# EAGLE library part PCF8523 (library LinnesLab-Clocks)
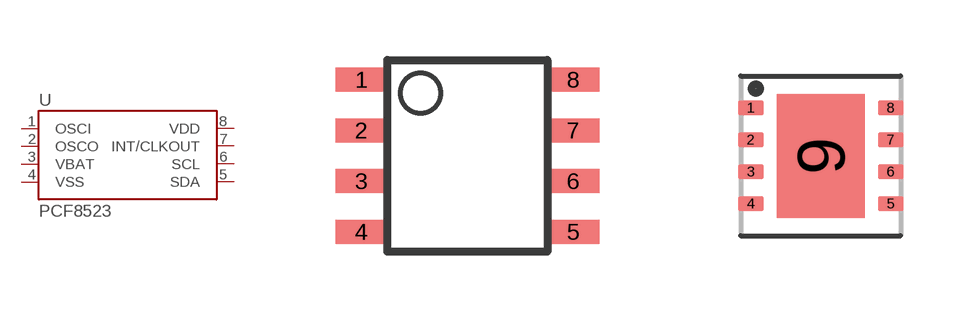
[diagram p0: symbol with the pads of SO8; footprints SO8, 8-HVSON(4X4)]

Designator prefix U

## PCF8523 (DIGIKEY: 568-5306-1-ND; I2C_ADDRESS: 0x68h; MFN: PCF8523T/1,118; MFN_MANUFACTURER: NXP USA Inc.)  [SO8]
1  OSCI
2  OSCO
3  VBAT  pwr
4  VSS  pwr
5  SDA
6  SCL
7  INT/CLKOUT
8  VDD  pwr

## PCF85238-HVSON(4X4)  [8-HVSON(4X4)]
1  OSCI
2  OSCO
3  VBAT  pwr
4  VSS  pwr
5  SDA
6  SCL
7  INT/CLKOUT
8  VDD  pwr
9  VSS  pwr

## Footprint SO8 (pad centres in mm)
8-Lead Small Outline IC (SO-8) Source: http://www.analog.com/UploadedFiles/Data_Sheets/703465986AD8611_2_0.pdf
smd 1.3 x 0.6: 1 -2.65,1.905; 2 -2.65,0.635; 3 -2.65,-0.635; 4 -2.65,-1.905; 5 2.65,-1.905; 6 2.65,-0.635; 7 2.65,0.635; 8 2.65,1.905

## Footprint 8-HVSON(4X4) (pad centres in mm)
smd 0.65 x 0.37: 1 -1.75,1.2; 2 -1.75,0.4; 3 -1.75,-0.4; 4 -1.75,-1.2; 5 1.75,-1.2; 6 1.75,-0.4; 7 1.75,0.4; 8 1.75,1.2
smd 2.2 x 3.1: 9 0,0